# Altium integrated library Altium_WL-T7DS (rev22d).IntLib: 18 symbols
Pins are listed as number, name and electrical type; pins without a type are passive.

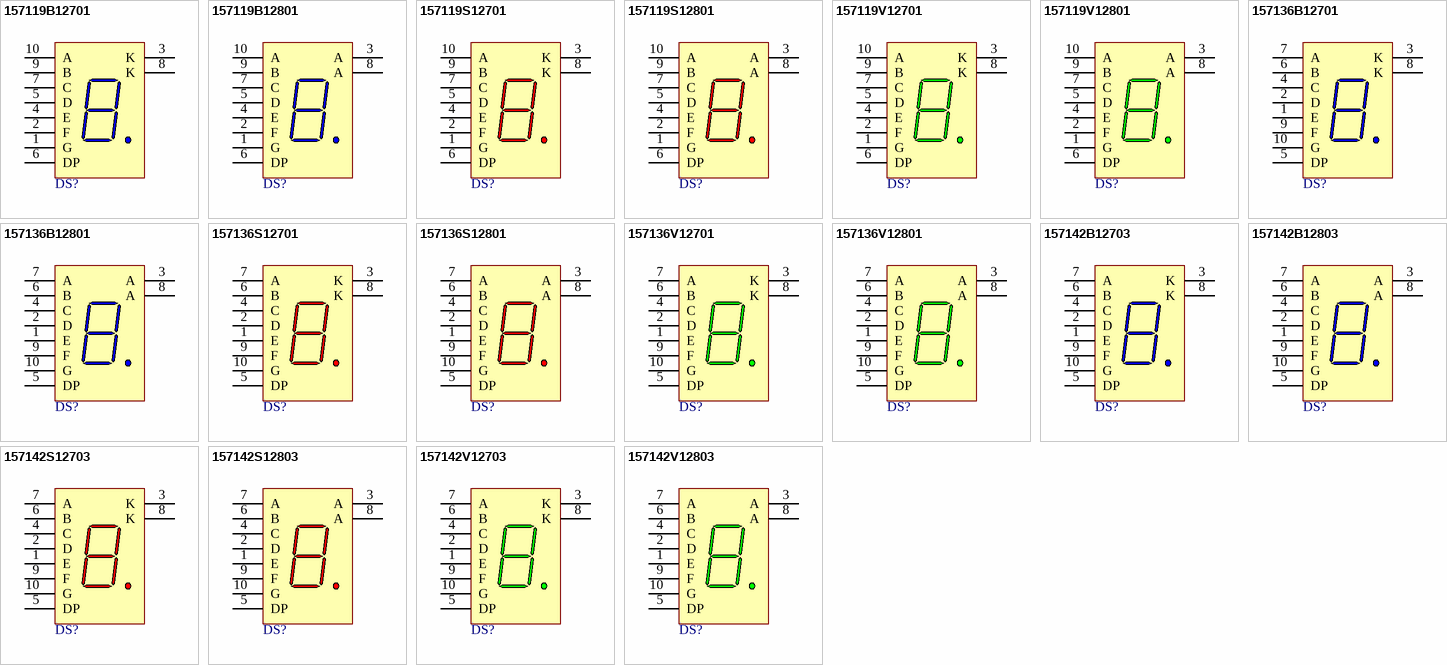
[diagram p0: symbols 157119B12701 to 157142V12803]

## 157119B12701
designator DS?  (value not drawn)
WL-T7DS 7 Segments Display THT Single Digit, 0.39" / 9.9mm, Common Cathode, 32mcd, 3V, Blue; Manufacturer: Wurth Elektronik; ComponentLink1Description: Website Link; ComponentLink1URL: https://www.we-online.com/redexpert/article/157119B12701?ad; ComponentLink2Description: Datasheet Link; ComponentLink2URL: https://www.we-online.com/redexpert/spec/157119B12701?ad; Manufacturer Part Number: 157119B12701; Category: 7 Segments Display; Match Code: WL-T7DS; Mount: Through Hole; Operating Temperature Max: 85°C; Operating Temperature Min: -40°C; Packaging: Tube; Length: 13mm; Width: 10mm; Height: 7mm; Circuitry: Common Cathode; Display Height: 0.39" / 9.9mm; Emitting Color: Blue; Forward Voltage: 3V; Luminous Intensity: 32mcd
footprint WL-T7DS_L13W10H7
pins: 1 G "Cathode", 2 F "Cathode", 3 K "Anode", 4 E "Cathode", 5 D "Cathode", 6 DP "Cathode", 7 C "Cathode", 8 K "Anode", 9 B "Cathode", 10 A "Cathode"

## 157119B12801
designator DS?  (value not drawn)
WL-T7DS 7 Segments Display THT Single Digit, 0.39" / 9.9mm, Common Anode, 32mcd, 3V, Blue; Manufacturer: Wurth Elektronik; ComponentLink1Description: Website Link; ComponentLink1URL: https://www.we-online.com/redexpert/article/157119B12801?ad; ComponentLink2Description: Datasheet Link; ComponentLink2URL: https://www.we-online.com/redexpert/spec/157119B12801?ad; Manufacturer Part Number: 157119B12801; Category: 7 Segments Display; Match Code: WL-T7DS; Mount: Through Hole; Operating Temperature Max: 85°C; Operating Temperature Min: -40°C; Packaging: Tube; Length: 13mm; Width: 10mm; Height: 7mm; Circuitry: Common Anode; Display Height: 0.39" / 9.9mm; Emitting Color: Blue; Forward Voltage: 3V; Luminous Intensity: 32mcd
footprint WL-T7DS_L13W10H7
pins: 1 G "Cathode", 2 F "Cathode", 3 A "Anode", 4 E "Cathode", 5 D "Cathode", 6 DP "Cathode", 7 C "Cathode", 8 A "Anode", 9 B "Cathode", 10 A "Cathode"

## 157119S12701
designator DS?  (value not drawn)
WL-T7DS 7 Segments Display THT Single Digit, 0.39"/ 9.9mm, Common Cathode, 38mcd, 2V, Super Red; Manufacturer: Wurth Elektronik; ComponentLink1Description: Website Link; ComponentLink1URL: https://www.we-online.com/redexpert/article/157119S12701?ad; ComponentLink2Description: Datasheet Link; ComponentLink2URL: https://www.we-online.com/redexpert/spec/157119S12701?ad; Manufacturer Part Number: 157119S12701; Category: 7 Segments Display; Match Code: WL-T7DS; Mount: Through Hole; Operating Temperature Max: 85°C; Operating Temperature Min: -40°C; Packaging: Tube; Length: 13mm; Width: 10mm; Height: 7mm; Circuitry: Common Cathode; Display Height: 0.39"/ 9.9mm; Emitting Color: Super Red; Forward Voltage: 2V; Luminous Intensity: 38mcd
footprint WL-T7DS_L13W10H7
pins: 1 G "Cathode", 2 F "Cathode", 3 K "Anode", 4 E "Cathode", 5 D "Cathode", 6 DP "Cathode", 7 C "Cathode", 8 K "Anode", 9 B "Cathode", 10 A "Cathode"

## 157119S12801
designator DS?  (value not drawn)
WL-T7DS 7 Segments Display THT Single Digit, 0.39"/ 9.9mm, Common Anode, 38mcd, 2V, Super Red; Manufacturer: Wurth Elektronik; ComponentLink1Description: Website Link; ComponentLink1URL: https://www.we-online.com/redexpert/article/157119S12801?ad; ComponentLink2Description: Datasheet Link; ComponentLink2URL: https://www.we-online.com/redexpert/spec/157119S12801?ad; Manufacturer Part Number: 157119S12801; Category: 7 Segments Display; Match Code: WL-T7DS; Mount: Through Hole; Operating Temperature Max: 85°C; Operating Temperature Min: -40°C; Packaging: Tube; Length: 13mm; Width: 10mm; Height: 7mm; Circuitry: Common Anode; Display Height: 0.39"/ 9.9mm; Emitting Color: Super Red; Forward Voltage: 2V; Luminous Intensity: 38mcd
footprint WL-T7DS_L13W10H7
pins: 1 G "Cathode", 2 F "Cathode", 3 A "Anode", 4 E "Cathode", 5 D "Cathode", 6 DP "Cathode", 7 C "Cathode", 8 A "Anode", 9 B "Cathode", 10 A "Cathode"

## 157119V12701
designator DS?  (value not drawn)
WL-T7DS 7 Segments Display THT Single Digit, 0.39"/ 9.9mm, Common Cathode, 46mcd, 2.2V, Bright Green; Manufacturer: Wurth Elektronik; ComponentLink1Description: Website Link; ComponentLink1URL: https://www.we-online.com/redexpert/article/157119V12701?ad; ComponentLink2Description: Datasheet Link; ComponentLink2URL: https://www.we-online.com/redexpert/spec/157119V12701?ad; Manufacturer Part Number: 157119V12701; Category: 7 Segments Display; Match Code: WL-T7DS; Mount: Through Hole; Operating Temperature Max: 85°C; Operating Temperature Min: -40°C; Packaging: Tube; Length: 13mm; Width: 10mm; Height: 7mm; Circuitry: Common Cathode; Display Height: 0.39"/ 9.9mm; Emitting Color: Bright Green; Forward Voltage: 2.2V; Luminous Intensity: 46mcd
footprint WL-T7DS_L13W10H7
pins: 1 G "Cathode", 2 F "Cathode", 3 K "Anode", 4 E "Cathode", 5 D "Cathode", 6 DP "Cathode", 7 C "Cathode", 8 K "Anode", 9 B "Cathode", 10 A "Cathode"

## 157119V12801
designator DS?  (value not drawn)
WL-T7DS 7 Segments Display THT Single Digit, 0.39"/ 9.9mm, Common Anode, 46mcd, 2.2V, Bright Green; Manufacturer: Wurth Elektronik; ComponentLink1Description: Website Link; ComponentLink1URL: https://www.we-online.com/redexpert/article/157119V12801?ad; ComponentLink2Description: Datasheet Link; ComponentLink2URL: https://www.we-online.com/redexpert/spec/157119V12801?ad; Manufacturer Part Number: 157119V12801; Category: 7 Segments Display; Match Code: WL-T7DS; Mount: Through Hole; Operating Temperature Max: 85°C; Operating Temperature Min: -40°C; Packaging: Tube; Length: 13mm; Width: 10mm; Height: 7mm; Circuitry: Common Anode; Display Height: 0.39"/ 9.9mm; Emitting Color: Bright Green; Forward Voltage: 2.2V; Luminous Intensity: 46mcd
footprint WL-T7DS_L13W10H7
pins: 1 G "Cathode", 2 F "Cathode", 3 A "Anode", 4 E "Cathode", 5 D "Cathode", 6 DP "Cathode", 7 C "Cathode", 8 A "Anode", 9 B "Cathode", 10 A "Cathode"

## 157136B12701
designator DS?  (value not drawn)
WL-T7DS 7 Segments Display THT Single Digit, 0.52" / 13.2mm, Common Cathode, 32mcd, 3V, Blue; Manufacturer: Wurth Elektronik; ComponentLink1Description: Website Link; ComponentLink1URL: https://www.we-online.com/redexpert/article/157136B12701?ad; ComponentLink2Description: Datasheet Link; ComponentLink2URL: https://www.we-online.com/redexpert/spec/157136B12701?ad; Manufacturer Part Number: 157136B12701; Category: 7 Segments Display; Match Code: WL-T7DS; Mount: Through Hole; Operating Temperature Max: 85°C; Operating Temperature Min: -40°C; Packaging: Tube; Length: 17.5mm; Width: 12.4mm; Height: 7mm; Circuitry: Common Cathode; Display Height: 0.52" / 13.2mm; Emitting Color: Blue; Forward Voltage: 3V; Luminous Intensity: 32mcd
footprint WL-T7DS_L17.5W12.4H7
pins: 1 E "Cathode", 2 D "Cathode", 3 K "Anode", 4 C "Cathode", 5 DP "Cathode", 6 B "Cathode", 7 A "Cathode", 8 K "Anode", 9 F "Cathode", 10 G "Cathode"

## 157136B12801
designator DS?  (value not drawn)
WL-T7DS 7 Segments Display THT Single Digit, 0.52" / 13.2mm, Common Anode, 32mcd, 3V, Blue; Manufacturer: Wurth Elektronik; ComponentLink1Description: Website Link; ComponentLink1URL: https://www.we-online.com/redexpert/article/157136B12801?ad; ComponentLink2Description: Datasheet Link; ComponentLink2URL: https://www.we-online.com/redexpert/spec/157136B12801?ad; Manufacturer Part Number: 157136B12801; Category: 7 Segments Display; Match Code: WL-T7DS; Mount: Through Hole; Operating Temperature Max: 85°C; Operating Temperature Min: -40°C; Packaging: Tube; Length: 17.5mm; Width: 12.4mm; Height: 7mm; Circuitry: Common Anode; Display Height: 0.52" / 13.2mm; Emitting Color: Blue; Forward Voltage: 3V; Luminous Intensity: 32mcd
footprint WL-T7DS_L17.5W12.4H7
pins: 1 E "Cathode", 2 D "Cathode", 3 A "Anode", 4 C "Cathode", 5 DP "Cathode", 6 B "Cathode", 7 A "Cathode", 8 A "Anode", 9 F "Cathode", 10 G "Cathode"

## 157136S12701
designator DS?  (value not drawn)
WL-T7DS 7 Segments Display THT Single Digit, 0.52" / 13.2mm, Common Cathode, 38mcd, 2V, Super Red; Manufacturer: Wurth Elektronik; ComponentLink1Description: Website Link; ComponentLink1URL: https://www.we-online.com/redexpert/article/157136S12701?ad; ComponentLink2Description: Datasheet Link; ComponentLink2URL: https://www.we-online.com/redexpert/spec/157136S12701?ad; Manufacturer Part Number: 157136S12701; Category: 7 Segments Display; Match Code: WL-T7DS; Mount: Through Hole; Operating Temperature Max: 85°C; Operating Temperature Min: -40°C; Packaging: Tube; Length: 17.5mm; Width: 12.4mm; Height: 7mm; Circuitry: Common Cathode; Display Height: 0.52" / 13.2mm; Emitting Color: Super Red; Forward Voltage: 2V; Luminous Intensity: 38mcd
footprint WL-T7DS_L17.5W12.4H7
pins: 1 E "Cathode", 2 D "Cathode", 3 K "Anode", 4 C "Cathode", 5 DP "Cathode", 6 B "Cathode", 7 A "Cathode", 8 K "Anode", 9 F "Cathode", 10 G "Cathode"

## 157136S12801
designator DS?  (value not drawn)
WL-T7DS 7 Segments Display THT Single Digit, 0.52" / 13.2mm, Common Anode, 38mcd, 2V, Super Red; Manufacturer: Wurth Elektronik; ComponentLink1Description: Website Link; ComponentLink1URL: https://www.we-online.com/redexpert/article/157136S12801?ad; ComponentLink2Description: Datasheet Link; ComponentLink2URL: https://www.we-online.com/redexpert/spec/157136S12801?ad; Manufacturer Part Number: 157136S12801; Category: 7 Segments Display; Match Code: WL-T7DS; Mount: Through Hole; Operating Temperature Max: 85°C; Operating Temperature Min: -40°C; Packaging: Tube; Length: 17.5mm; Width: 12.4mm; Height: 7mm; Circuitry: Common Anode; Display Height: 0.52" / 13.2mm; Emitting Color: Super Red; Forward Voltage: 2V; Luminous Intensity: 38mcd
footprint WL-T7DS_L17.5W12.4H7
pins: 1 E "Cathode", 2 D "Cathode", 3 A "Anode", 4 C "Cathode", 5 DP "Cathode", 6 B "Cathode", 7 A "Cathode", 8 A "Anode", 9 F "Cathode", 10 G "Cathode"

## 157136V12701
designator DS?  (value not drawn)
WL-T7DS 7 Segments Display THT Single Digit, 0.52" / 13.2mm, Common Cathode, 46mcd, 2.2V, Bright Gre; Manufacturer: Wurth Elektronik; Emitting Color: Bright Green; ComponentLink1Description: Website Link; ComponentLink1URL: https://www.we-online.com/redexpert/article/157136V12701?ad; ComponentLink2Description: Datasheet Link; ComponentLink2URL: https://www.we-online.com/redexpert/spec/157136V12701?ad; Manufacturer Part Number: 157136V12701; Category: 7 Segments Display; Match Code: WL-T7DS; Mount: Through Hole; Operating Temperature Max: 85°C; Operating Temperature Min: -40°C; Packaging: Tube; Length: 17.5mm; Width: 12.4mm; Height: 7mm; Circuitry: Common Cathode; Display Height: 0.52" / 13.2mm; Forward Voltage: 2.2V; Luminous Intensity: 46mcd
footprint WL-T7DS_L17.5W12.4H7
pins: 1 E "Cathode", 2 D "Cathode", 3 K "Anode", 4 C "Cathode", 5 DP "Cathode", 6 B "Cathode", 7 A "Cathode", 8 K "Anode", 9 F "Cathode", 10 G "Cathode"

## 157136V12801
designator DS?  (value not drawn)
WL-T7DS 7 Segments Display THT Single Digit, 0.52" / 13.2mm, Common Anode, 46mcd, 2.2V, Bright Green; Manufacturer: Wurth Elektronik; ComponentLink1Description: Website Link; ComponentLink1URL: https://www.we-online.com/redexpert/article/157136V12801?ad; ComponentLink2Description: Datasheet Link; ComponentLink2URL: https://www.we-online.com/redexpert/spec/157136V12801?ad; Manufacturer Part Number: 157136V12801; Category: 7 Segments Display; Match Code: WL-T7DS; Mount: Through Hole; Operating Temperature Max: 85°C; Operating Temperature Min: -40°C; Packaging: Tube; Length: 17.5mm; Width: 12.4mm; Height: 7mm; Circuitry: Common Anode; Display Height: 0.52" / 13.2mm; Emitting Color: Bright Green; Forward Voltage: 2.2V; Luminous Intensity: 46mcd
footprint WL-T7DS_L17.5W12.4H7
pins: 1 E "Cathode", 2 D "Cathode", 3 A "Anode", 4 C "Cathode", 5 DP "Cathode", 6 B "Cathode", 7 A "Cathode", 8 A "Anode", 9 F "Cathode", 10 G "Cathode"

## 157142B12703
designator DS?  (value not drawn)
WL-T7DS 7 Segments Display THT Single Digit, 0.56" / 14.2mm, Common Cathode, 32mcd, 3V, Blue; Manufacturer: Wurth Elektronik; ComponentLink1Description: Website Link; ComponentLink1URL: https://www.we-online.com/redexpert/article/157142B12703?ad; ComponentLink2Description: Datasheet Link; ComponentLink2URL: https://www.we-online.com/redexpert/spec/157142B12703?ad; Manufacturer Part Number: 157142B12703; Category: 7 Segments Display; Match Code: WL-T7DS; Mount: Through Hole; Operating Temperature Max: 85°C; Operating Temperature Min: -40°C; Packaging: Tube; Length: 19mm; Width: 12.6mm; Height: 7.9mm; Circuitry: Common Cathode; Display Height: 0.56" / 14.2mm; Emitting Color: Blue; Forward Voltage: 3V; Luminous Intensity: 32mcd
footprint WL-T7DS_L19W12.6H7.9
pins: 1 E "Cathode", 2 D "Cathode", 3 K "Anode", 4 C "Cathode", 5 DP "Cathode", 6 B "Cathode", 7 A "Cathode", 8 K "Anode", 9 F "Cathode", 10 G "Cathode"

## 157142B12803
designator DS?  (value not drawn)
WL-T7DS 7 Segments Display THT Single Digit, 0.56" / 14.2mm, Common Anode, 32mcd, 3V, Blue; Manufacturer: Wurth Elektronik; ComponentLink1Description: Website Link; ComponentLink1URL: https://www.we-online.com/redexpert/article/157142B12803?ad; ComponentLink2Description: Datasheet Link; ComponentLink2URL: https://www.we-online.com/redexpert/spec/157142B12803?ad; Manufacturer Part Number: 157142B12803; Category: 7 Segments Display; Match Code: WL-T7DS; Mount: Through Hole; Operating Temperature Max: 85°C; Operating Temperature Min: -40°C; Packaging: Tube; Length: 19mm; Width: 12.6mm; Height: 7.9mm; Circuitry: Common Anode; Display Height: 0.56" / 14.2mm; Emitting Color: Blue; Forward Voltage: 3V; Luminous Intensity: 32mcd
footprint WL-T7DS_L19W12.6H7.9
pins: 1 E "Cathode", 2 D "Cathode", 3 A "Anode", 4 C "Cathode", 5 DP "Cathode", 6 B "Cathode", 7 A "Cathode", 8 A "Anode", 9 F "Cathode", 10 G "Cathode"

## 157142S12703
designator DS?  (value not drawn)
WL-T7DS 7 Segments Display THT Single Digit, 0.56" / 14.2mm, Common Cathode, 38mcd, 2V, Super Red; Manufacturer: Wurth Elektronik; ComponentLink1Description: Website Link; ComponentLink1URL: https://www.we-online.com/redexpert/article/157142S12703?ad; ComponentLink2Description: Datasheet Link; ComponentLink2URL: https://www.we-online.com/redexpert/spec/157142S12703?ad; Manufacturer Part Number: 157142S12703; Category: 7 Segments Display; Match Code: WL-T7DS; Mount: Through Hole; Operating Temperature Max: 85°C; Operating Temperature Min: -40°C; Packaging: Tube; Length: 19mm; Width: 12.6mm; Height: 7.9mm; Circuitry: Common Cathode; Display Height: 0.56" / 14.2mm; Emitting Color: Super Red; Forward Voltage: 2V; Luminous Intensity: 38mcd
footprint WL-T7DS_L19W12.6H7.9
pins: 1 E "Cathode", 2 D "Cathode", 3 K "Anode", 4 C "Cathode", 5 DP "Cathode", 6 B "Cathode", 7 A "Cathode", 8 K "Anode", 9 F "Cathode", 10 G "Cathode"

## 157142S12803
designator DS?  (value not drawn)
WL-T7DS 7 Segments Display THT Single Digit, 0.56" / 14.2mm, Common Anode, 38mcd, 2V, Super Red; Manufacturer: Wurth Elektronik; ComponentLink1Description: Website Link; ComponentLink1URL: https://www.we-online.com/redexpert/article/157142S12803?ad; ComponentLink2Description: Datasheet Link; ComponentLink2URL: https://www.we-online.com/redexpert/spec/157142S12803?ad; Manufacturer Part Number: 157142S12803; Category: 7 Segments Display; Match Code: WL-T7DS; Mount: Through Hole; Operating Temperature Max: 85°C; Operating Temperature Min: -40°C; Packaging: Tube; Length: 19mm; Width: 12.6mm; Height: 7.9mm; Circuitry: Common Anode; Display Height: 0.56" / 14.2mm; Emitting Color: Super Red; Forward Voltage: 2V; Luminous Intensity: 38mcd
footprint WL-T7DS_L19W12.6H7.9
pins: 1 E "Cathode", 2 D "Cathode", 3 A "Anode", 4 C "Cathode", 5 DP "Cathode", 6 B "Cathode", 7 A "Cathode", 8 A "Anode", 9 F "Cathode", 10 G "Cathode"

## 157142V12703
designator DS?  (value not drawn)
WL-T7DS 7 Segments Display THT Single Digit, 0.56" / 14.2mm, Common Cathode, 46mcd, 2.2V, Bright Gre; Manufacturer: Wurth Elektronik; Emitting Color: Bright Green; ComponentLink1Description: Website Link; ComponentLink1URL: https://www.we-online.com/redexpert/article/157142V12703?ad; ComponentLink2Description: Datasheet Link; ComponentLink2URL: https://www.we-online.com/redexpert/spec/157142V12703?ad; Manufacturer Part Number: 157142V12703; Category: 7 Segments Display; Match Code: WL-T7DS; Mount: Through Hole; Operating Temperature Max: 85°C; Operating Temperature Min: -40°C; Packaging: Tube; Length: 19mm; Width: 12.6mm; Height: 7.9mm; Circuitry: Common Cathode; Display Height: 0.56" / 14.2mm; Forward Voltage: 2.2V; Luminous Intensity: 46mcd
footprint WL-T7DS_L19W12.6H7.9
pins: 1 E "Cathode", 2 D "Cathode", 3 K "Anode", 4 C "Cathode", 5 DP "Cathode", 6 B "Cathode", 7 A "Cathode", 8 K "Anode", 9 F "Cathode", 10 G "Cathode"

## 157142V12803
designator DS?  (value not drawn)
WL-T7DS 7 Segments Display THT Single Digit, 0.56" / 14.2mm, Common Anode, 46mcd, 2.2V, Bright Green; Manufacturer: Wurth Elektronik; ComponentLink1Description: Website Link; ComponentLink1URL: https://www.we-online.com/redexpert/article/157142V12803?ad; ComponentLink2Description: Datasheet Link; ComponentLink2URL: https://www.we-online.com/redexpert/spec/157142V12803?ad; Manufacturer Part Number: 157142V12803; Category: 7 Segments Display; Match Code: WL-T7DS; Mount: Through Hole; Operating Temperature Max: 85°C; Operating Temperature Min: -40°C; Packaging: Tube; Length: 19mm; Width: 12.6mm; Height: 7.9mm; Circuitry: Common Anode; Display Height: 0.56" / 14.2mm; Emitting Color: Bright Green; Forward Voltage: 2.2V; Luminous Intensity: 46mcd
footprint WL-T7DS_L19W12.6H7.9
pins: 1 E "Cathode", 2 D "Cathode", 3 A "Anode", 4 C "Cathode", 5 DP "Cathode", 6 B "Cathode", 7 A "Cathode", 8 A "Anode", 9 F "Cathode", 10 G "Cathode"